# EAGLE library part POCKETBEAGLE (library instrument_glove)
BeagleBoard PocketBeagle
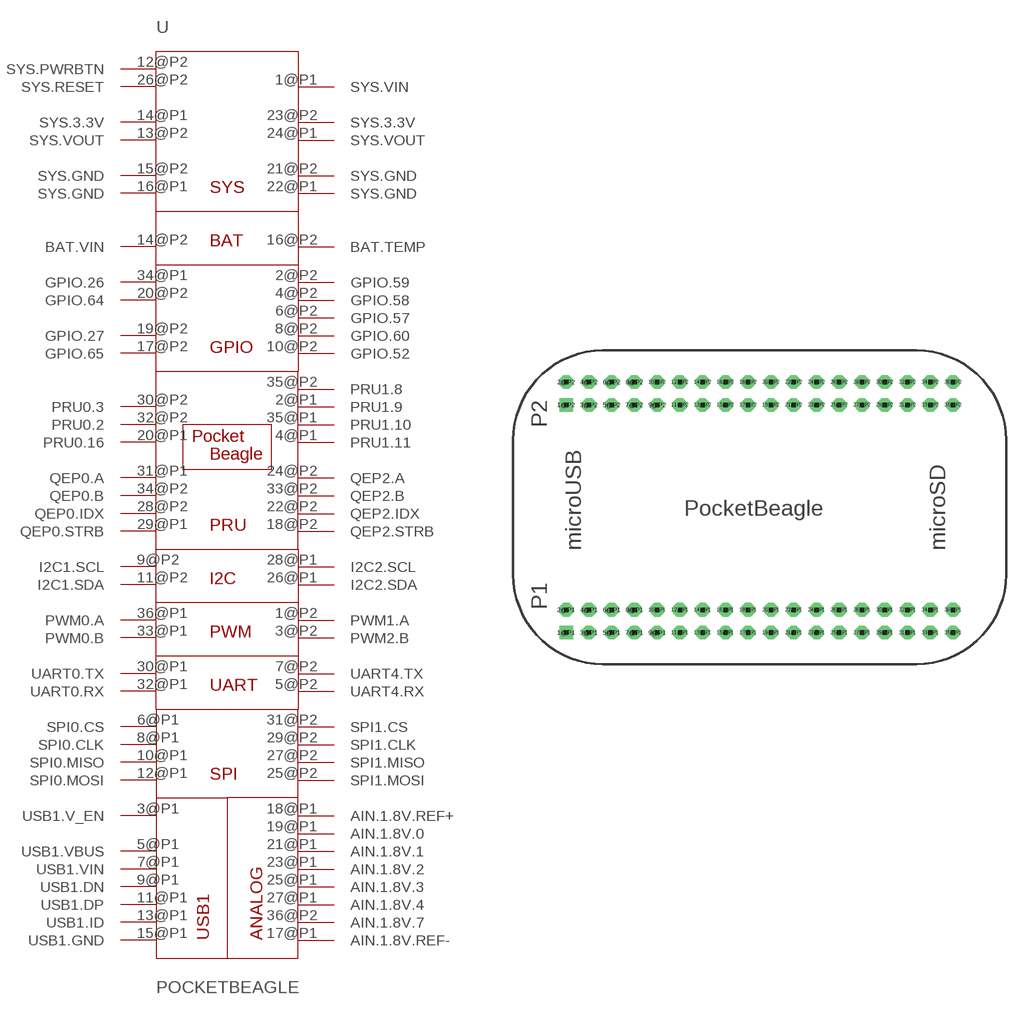
[diagram p0: symbol with the pads of POCKETBEAGLE; footprint POCKETBEAGLE]

Designator prefix U

## POCKETBEAGLE  [POCKETBEAGLE]
1@P1  SYS.VIN  in
1@P2  PWM1.A
2@P1  PRU1.9
2@P2  GPIO.59
3@P1  USB1.V_EN
3@P2  PWM2.B
4@P1  PRU1.11
4@P2  GPIO.58
5@P1  USB1.VBUS  pwr
5@P2  UART4.RX
6@P1  SPI0.CS
6@P2  GPIO.57
7@P1  USB1.VIN  pwr
7@P2  UART4.TX
8@P1  SPI0.CLK
8@P2  GPIO.60
9@P1  USB1.DN
9@P2  I2C1.SCL
10@P1  SPI0.MISO
10@P2  GPIO.52
11@P1  USB1.DP
11@P2  I2C1.SDA
12@P1  SPI0.MOSI
12@P2  SYS.PWRBTN  pwr
13@P1  USB1.ID
13@P2  SYS.VOUT  out
14@P1  SYS.3.3V  pwr
14@P2  BAT.VIN  out
15@P1  USB1.GND
15@P2  SYS.GND  pwr
16@P1  SYS.GND  pwr
16@P2  BAT.TEMP  out
17@P1  AIN.1.8V.REF-  pwr
17@P2  GPIO.65
18@P1  AIN.1.8V.REF+  pwr
18@P2  QEP2.STRB
19@P1  AIN.1.8V.0  in
19@P2  GPIO.27
20@P1  PRU0.16
20@P2  GPIO.64
21@P1  AIN.1.8V.1  in
21@P2  SYS.GND  pwr
22@P1  SYS.GND  pwr
22@P2  QEP2.IDX
23@P1  AIN.1.8V.2  in
23@P2  SYS.3.3V  pwr
24@P1  SYS.VOUT  out
24@P2  QEP2.A
25@P1  AIN.1.8V.3  in
25@P2  SPI1.MOSI
26@P1  I2C2.SDA
26@P2  SYS.RESET  pwr
27@P1  AIN.1.8V.4  in
27@P2  SPI1.MISO
28@P1  I2C2.SCL
28@P2  QEP0.IDX
29@P1  QEP0.STRB
29@P2  SPI1.CLK
30@P1  UART0.TX
30@P2  PRU0.3
31@P1  QEP0.A
31@P2  SPI1.CS
32@P1  UART0.RX
32@P2  PRU0.2
33@P1  PWM0.B
33@P2  QEP2.B
34@P1  GPIO.26
34@P2  QEP0.B
35@P1  PRU1.10
35@P2  PRU1.8
36@P1  PWM0.A
36@P2  AIN.1.8V.7  in

## Footprint POCKETBEAGLE (pad centres in mm)
Package generated by make-group2pac.ulp from: C:/Users/Eric Voigt/Desktop/pocketbeagle-master/pocketbeagle-master/EAGLE/PocketBeagle.brd at: 11/12/2019 7:43 PM
drill 0.889 pad 1.524 square: 1@P1 5.91,6.07; 1@P2 5.91,31.47
drill 0.889 pad 1.524 octagon: 2@P1 5.91,8.61; 2@P2 5.91,34.01; 3@P1 8.45,6.07; 3@P2 8.45,31.47; 4@P1 8.45,8.61; 4@P2 8.45,34.01; 5@P1 10.99,6.07; 5@P2 10.99,31.47; 6@P1 10.99,8.61; 6@P2 10.99,34.01; 7@P1 13.53,6.07; 7@P2 13.53,31.47; 8@P1 13.53,8.61; 8@P2 13.53,34.01; 9@P1 16.07,6.07; 9@P2 16.07,31.47; 10@P1 16.07,8.61; 10@P2 16.07,34.01; 11@P1 18.61,6.07; 11@P2 18.61,31.47; 12@P1 18.61,8.61; 12@P2 18.61,34.01; 13@P1 21.15,6.07; 13@P2 21.15,31.47; 14@P1 21.15,8.61; 14@P2 21.15,34.01; 15@P1 23.69,6.07; 15@P2 23.69,31.47; 16@P1 23.69,8.61; 16@P2 23.69,34.01; 17@P1 26.23,6.07; 17@P2 26.23,31.47; 18@P1 26.23,8.61; 18@P2 26.23,34.01; 19@P1 28.77,6.07; 19@P2 28.77,31.47; 20@P1 28.77,8.61; 20@P2 28.77,34.01; 21@P1 31.31,6.07; 21@P2 31.31,31.47; 22@P1 31.31,8.61; 22@P2 31.31,34.01; 23@P1 33.85,6.07; 23@P2 33.85,31.47; 24@P1 33.85,8.61; 24@P2 33.85,34.01; 25@P1 36.39,6.07; 25@P2 36.39,31.47; 26@P1 36.39,8.61; 26@P2 36.39,34.01; 27@P1 38.93,6.07; 27@P2 38.93,31.47; 28@P1 38.93,8.61; 28@P2 38.93,34.01; 29@P1 41.47,6.07; 29@P2 41.47,31.47; 30@P1 41.47,8.61; 30@P2 41.47,34.01; 31@P1 44.01,6.07; 31@P2 44.01,31.47; 32@P1 44.01,8.61; 32@P2 44.01,34.01; 33@P1 46.55,6.07; 33@P2 46.55,31.47; 34@P1 46.55,8.61; 34@P2 46.55,34.01; 35@P1 49.09,6.07; 35@P2 49.09,31.47; 36@P1 49.09,8.61; 36@P2 49.09,34.01